# Altium schematic symbol library Schlib3.SchLib: 1 symbol
Pins are listed as number, name and electrical type; pins without a type are passive.

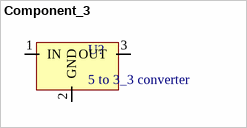
[diagram p0: symbol Component_3]

## Component_3
designator U?, comment 5 to 3_3 converter
footprint SOT230P700X180-4N (SOT223, 4-Leads, Body 6,7x7,3mm (max), Pitch 2,30mm, IPC Medium Density)
pins: 1 IN, 2 GND, 3 OUT